# Altium integrated library NSC Converter Analog to Digital.IntLib: 246 symbols (part 2 of 7)
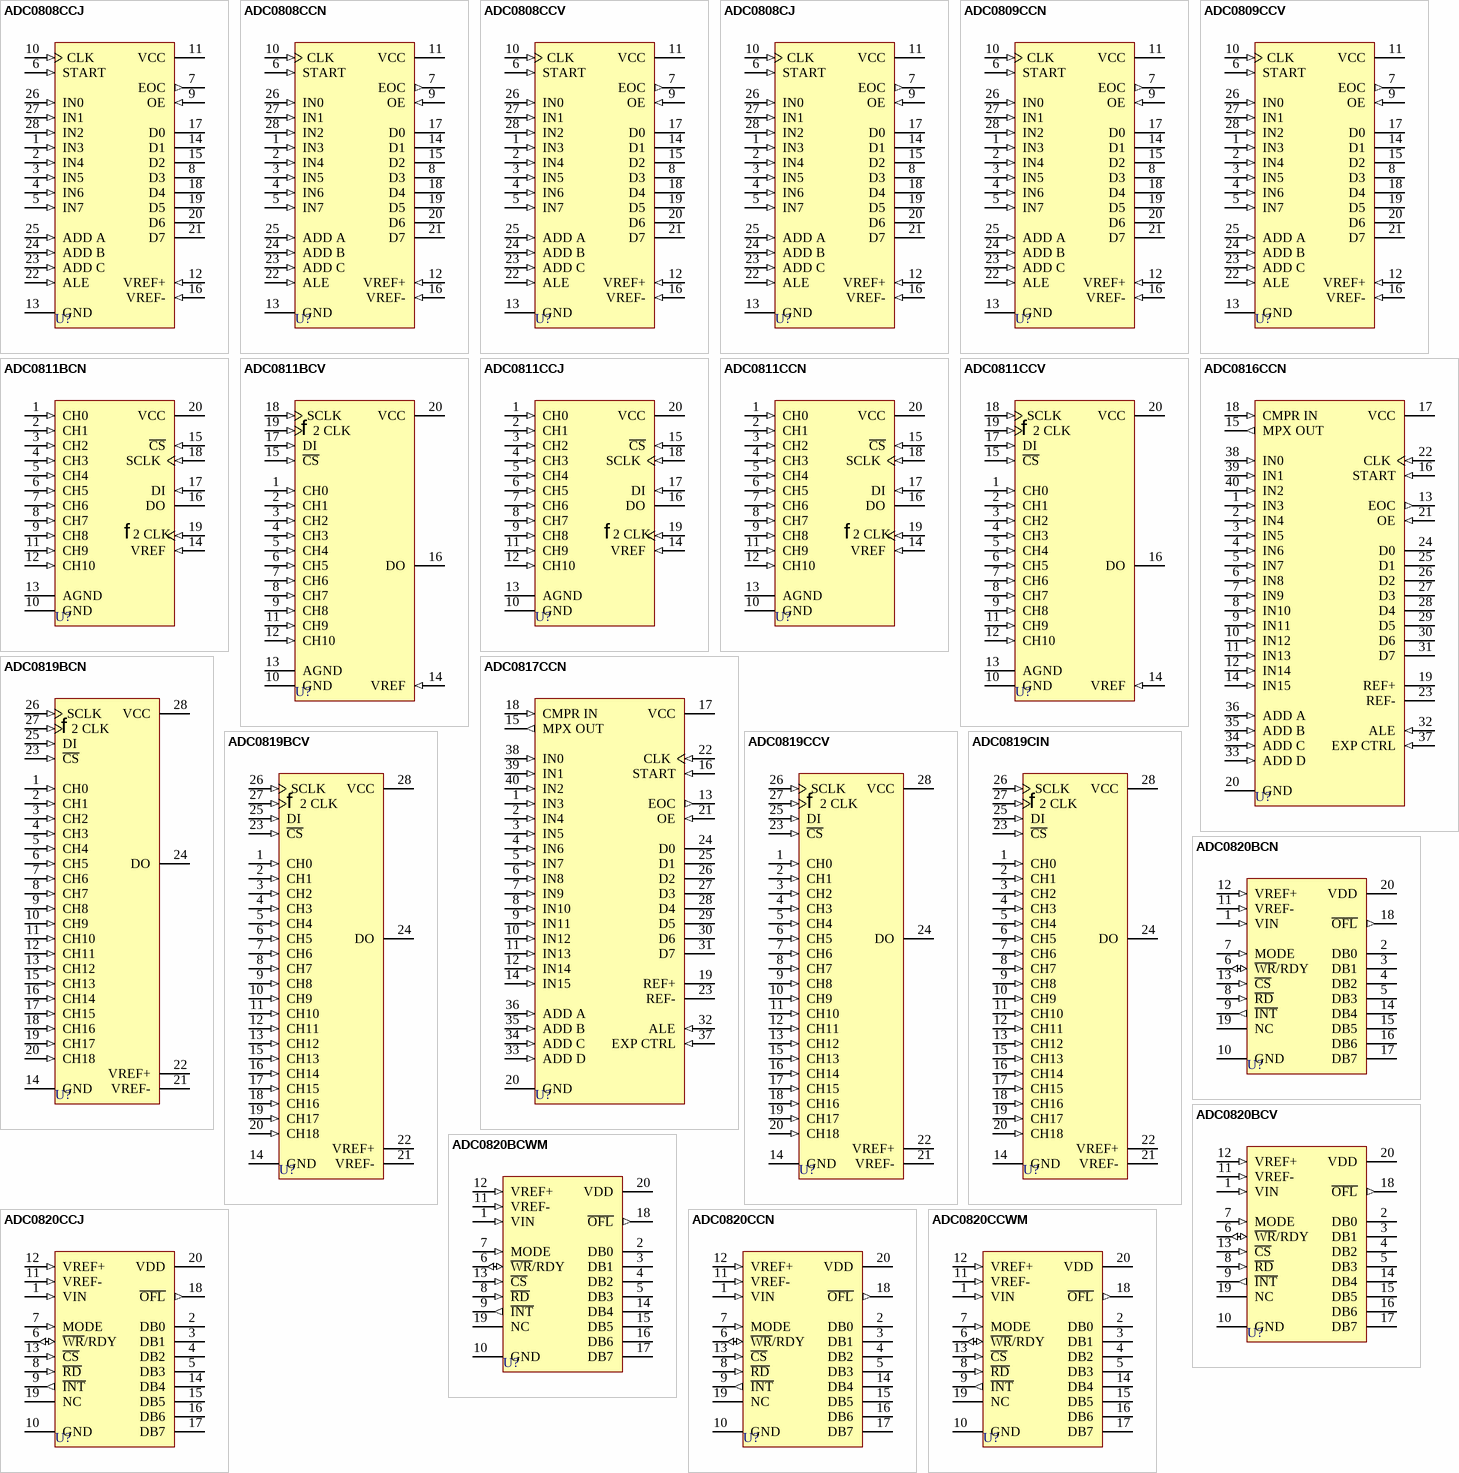
[diagram p10: symbols ADC0808CCJ to ADC0820CCWM]

## ADC0819BCV
designator U?
8-Bit Serial I/O A/D Converter with 19-Channel Multiplexer; ComponentAvailability: Obsolete; Published: 15-Apr-2002; LatestRevisionDate: 13-Apr-2006; LatestRevisionNote: IPC-7351 Footprint Added.; DatasheetVersion: Dec-1994; PackageVersion: 2000; PackageReference: V28A; Publisher: Altium Limited; PackageDescription: 28-Pin Leaded Chip Carrier 1.27 mm Pitch; Code_IPC: PLCC-28; ComponentLink1Description: Manufacturer Link; ComponentLink1URL: http://www.national.com/; ComponentLink2Description: Datasheet; ComponentLink2URL: http://www.national.com/ds.cgi/DC/ADC0819.pdf; ComponentLink3Description: Discontinuation Notice; ComponentLink3URL: http://www.national.com/obs/obsolescence.txt; ComponentLink4Description: URL Link1; ComponentLink4URL: http://www.national.com/pf/DC/ADC0819.html
footprint V28A_N (Leaded Chip Carrier, 28-Leads, Body 11.5x11.5mm, Pitch 1.27mm, IPC Medium Density)
footprint V28A_L (Leaded Chip Carrier, 28-Leads, Body 11.5x11.5mm, Pitch 1.27mm, IPC High Density)
footprint V28A_M (Leaded Chip Carrier, 28-Leads, Body 11.5x11.5mm, Pitch 1.27mm, IPC Low Density)
3D model ADC0819-V28A (28-Pin Leaded Chip Carrier 1.27 mm Pitch)
pins: 1 CH0 (in), 2 CH1 (in), 3 CH2 (in), 4 CH3 (in), 5 CH4 (in), 6 CH5 (in), 7 CH6 (in), 8 CH7 (in), 9 CH8 (in), 10 CH9 (in), 11 CH10 (in), 12 CH11 (in), 13 CH12 (in), 14 GND (power), 15 CH13 (in), 16 CH14 (in), 17 CH15 (in), 18 CH16 (in), 19 CH17 (in), 20 CH18 (in), 21 VREF-, 22 VREF+, 23 ~{CS} (in), 24 DO (hiz), 25 DI (in), 26 SCLK (in), 27 PHI 2 CLK (in), 28 VCC (power)
text: f; 2 CLK

## ADC0819CCV
designator U?
8-Bit Serial I/O A/D Converter with 19-Channel Multiplexer; ComponentAvailability: Obsolete; Published: 15-Apr-2002; LatestRevisionDate: 13-Apr-2006; LatestRevisionNote: IPC-7351 Footprint Added.; DatasheetVersion: Dec-1994; PackageVersion: 2000; PackageReference: V28A; Publisher: Altium Limited; PackageDescription: 28-Pin Leaded Chip Carrier 1.27 mm Pitch; Code_IPC: PLCC-28; ComponentLink1Description: Manufacturer Link; ComponentLink1URL: http://www.national.com/; ComponentLink2Description: Datasheet; ComponentLink2URL: http://www.national.com/ds.cgi/DC/ADC0819.pdf; ComponentLink3Description: Discontinuation Notice; ComponentLink3URL: http://www.national.com/obs/obsolescence.txt; ComponentLink4Description: URL Link1; ComponentLink4URL: http://www.national.com/pf/DC/ADC0819.html
footprint V28A_N (Leaded Chip Carrier, 28-Leads, Body 11.5x11.5mm, Pitch 1.27mm, IPC Medium Density)
footprint V28A_L (Leaded Chip Carrier, 28-Leads, Body 11.5x11.5mm, Pitch 1.27mm, IPC High Density)
footprint V28A_M (Leaded Chip Carrier, 28-Leads, Body 11.5x11.5mm, Pitch 1.27mm, IPC Low Density)
3D model ADC0819-V28A (28-Pin Leaded Chip Carrier 1.27 mm Pitch)
pins: 1 CH0 (in), 2 CH1 (in), 3 CH2 (in), 4 CH3 (in), 5 CH4 (in), 6 CH5 (in), 7 CH6 (in), 8 CH7 (in), 9 CH8 (in), 10 CH9 (in), 11 CH10 (in), 12 CH11 (in), 13 CH12 (in), 14 GND (power), 15 CH13 (in), 16 CH14 (in), 17 CH15 (in), 18 CH16 (in), 19 CH17 (in), 20 CH18 (in), 21 VREF-, 22 VREF+, 23 ~{CS} (in), 24 DO (hiz), 25 DI (in), 26 SCLK (in), 27 PHI 2 CLK (in), 28 VCC (power)
text: f; 2 CLK

## ADC0819CIN
designator U?
8-Bit Serial I/O A/D Converter with 19-Channel Multiplexer; ComponentAvailability: Obsolete; Published: 15-Apr-2002; LatestRevisionDate: 06-Jun-2005; LatestRevisionNote: Stylized 3D Model Added.; DatasheetVersion: Dec-1994; PackageVersion: 2000; PackageReference: N28B; Publisher: Altium Limited; PackageDescription: DIP; 28 Leads; Row Spacing 15.24 mm; Pitch 2.54 mm; ComponentLink1Description: Manufacturer Link; ComponentLink1URL: http://www.national.com/; ComponentLink2Description: Datasheet; ComponentLink2URL: http://www.national.com/ds.cgi/DC/ADC0819.pdf; ComponentLink3Description: Discontinuation Notice; ComponentLink3URL: http://www.national.com/obs/obsolescence.txt; ComponentLink4Description: URL Link1; ComponentLink4URL: http://www.national.com/pf/DC/ADC0819.html
footprint N28B (DIP; 28 Leads; Row Spacing 15.24 mm; Pitch 2.54 mm)
3D model N28B (DIP; 28 Leads; Row Spacing 15.24 mm; Pitch 2.54 mm)
pins: 1 CH0 (in), 2 CH1 (in), 3 CH2 (in), 4 CH3 (in), 5 CH4 (in), 6 CH5 (in), 7 CH6 (in), 8 CH7 (in), 9 CH8 (in), 10 CH9 (in), 11 CH10 (in), 12 CH11 (in), 13 CH12 (in), 14 GND (power), 15 CH13 (in), 16 CH14 (in), 17 CH15 (in), 18 CH16 (in), 19 CH17 (in), 20 CH18 (in), 21 VREF-, 22 VREF+, 23 ~{CS} (in), 24 DO (hiz), 25 DI (in), 26 SCLK (in), 27 PHI 2 CLK (in), 28 VCC (power)
text: f; 2 CLK

## ADC0820BCN
designator U?
8-Bit High Speed µP-Compatible  A/D Conveter with Track/Hold Function; ComponentAvailability: Obsolete; Published: 15-Apr-2002; LatestRevisionDate: 06-Jun-2005; LatestRevisionNote: Stylized 3D Model Added.; DatasheetVersion: Jun-1999; PackageVersion: 2000; PackageReference: N20A; Publisher: Altium Limited; PackageDescription: DIP; 20 Leads; Row Spacing 7.62 mm; Pitch 2.54 mm; Code_JEDEC: MS-001-AD; ComponentLink1Description: Manufacturer Link; ComponentLink1URL: http://www.national.com/; ComponentLink2Description: Datasheet; ComponentLink2URL: http://www.national.com/ds.cgi/DC/ADC0820.pdf; ComponentLink3Description: Discontinuation Notice; ComponentLink3URL: http://www.national.com/obs/obsolescence.txt; ComponentLink4Description: URL Link1; ComponentLink4URL: http://www.national.com/pf/DC/ADC0820.html
footprint N20A (DIP; 20 Leads; Row Spacing 7.62 mm; Pitch 2.54 mm)
3D model N20A (DIP; 20 Leads; Row Spacing 7.62 mm; Pitch 2.54 mm)
pins: 1 VIN (in), 2 DB0 (hiz), 3 DB1 (hiz), 4 DB2 (hiz), 5 DB3 (hiz), 6 ~{WR}/RDY (io), 7 MODE (in), 8 ~{RD} (in), 9 ~{INT} (out), 10 GND (power), 11 VREF- (in), 12 VREF+ (in), 13 ~{CS} (in), 14 DB4 (hiz), 15 DB5 (hiz), 16 DB6 (hiz), 17 DB7 (hiz), 18 ~{OFL} (out), 19 NC, 20 VDD (power)

## ADC0820BCV
designator U?
8-Bit High Speed µP-Compatible  A/D Conveter with Track/Hold Function; ComponentAvailability: Obsolete; Published: 15-Apr-2002; LatestRevisionDate: 13-Apr-2006; LatestRevisionNote: IPC-7351 Footprint Added.; DatasheetVersion: Jun-1999; PackageVersion: 1996; PackageReference: V20A; Publisher: Altium Limited; PackageDescription: 20-Pin Leaded Chip Carrier 1.27 mm Pitch; Code_IPC: PLCC-20; ComponentLink1Description: Manufacturer Link; ComponentLink1URL: http://www.national.com/; ComponentLink2Description: Datasheet; ComponentLink2URL: http://www.national.com/ds.cgi/DC/ADC0820.pdf; ComponentLink3Description: Discontinuation Notice; ComponentLink3URL: http://www.national.com/obs/obsolescence.txt; ComponentLink4Description: URL Link1; ComponentLink4URL: http://www.national.com/pf/DC/ADC0820.html
footprint V20A_N (Leaded Chip Carrier, 20-Leads, Body 9x9mm, Pitch 1.27mm, IPC Medium Density)
footprint V20A_L (Leaded Chip Carrier, 20-Leads, Body 9x9mm, Pitch 1.27mm, IPC High Density)
footprint V20A_M (Leaded Chip Carrier, 20-Leads, Body 9x9mm, Pitch 1.27mm, IPC Low Density)
3D model ADC0820-V20A (20-Pin Leaded Chip Carrier 1.27 mm Pitch)
pins: 1 VIN (in), 2 DB0 (hiz), 3 DB1 (hiz), 4 DB2 (hiz), 5 DB3 (hiz), 6 ~{WR}/RDY (io), 7 MODE (in), 8 ~{RD} (in), 9 ~{INT} (out), 10 GND (power), 11 VREF- (in), 12 VREF+ (in), 13 ~{CS} (in), 14 DB4 (hiz), 15 DB5 (hiz), 16 DB6 (hiz), 17 DB7 (hiz), 18 ~{OFL} (out), 19 NC, 20 VDD (power)

## ADC0820BCWM
designator U?
8-Bit High Speed µP-Compatible  A/D Conveter with Track/Hold Function; Published: 15-Apr-2002; LatestRevisionDate: 13-Apr-2006; LatestRevisionNote: IPC-7351 Footprint Added.; DatasheetVersion: Jun-1999; PackageVersion: 2000; PackageReference: M20B; Publisher: Altium Limited; PackageDescription: 20-Pin Small Outline Integrated Circuit 1.27 mm Pitch; Code_JEDEC: MS-013-AC; Code_IPC: SOIC127P1030-20; ComponentLink1Description: Manufacturer Link; ComponentLink1URL: http://www.national.com/; ComponentLink2Description: Datasheet; ComponentLink2URL: http://www.national.com/ds.cgi/DC/ADC0820.pdf; ComponentLink3Description: URL Link1; ComponentLink3URL: http://www.national.com/pf/DC/ADC0820.html
footprint M20B_N (SOIC, 20-Leads, Body 12.8x7.5mm, Pitch 1.27mm, IPC Medium Density)
footprint M20B_L (SOIC, 20-Leads, Body 12.8x7.5mm, Pitch 1.27mm, IPC High Density)
footprint M20B_M (SOIC, 20-Leads, Body 12.8x7.5mm, Pitch 1.27mm, IPC Low Density)
3D model M20B (20-Pin Small Outline Integrated Circuit 1.27 mm Pitch)
pins: 1 VIN (in), 2 DB0 (hiz), 3 DB1 (hiz), 4 DB2 (hiz), 5 DB3 (hiz), 6 ~{WR}/RDY (io), 7 MODE (in), 8 ~{RD} (in), 9 ~{INT} (out), 10 GND (power), 11 VREF- (in), 12 VREF+ (in), 13 ~{CS} (in), 14 DB4 (hiz), 15 DB5 (hiz), 16 DB6 (hiz), 17 DB7 (hiz), 18 ~{OFL} (out), 19 NC, 20 VDD (power)

## ADC0820CCJ
designator U?
8-Bit High Speed µP-Compatible  A/D Conveter with Track/Hold Function; ComponentAvailability: Obsolete; Published: 15-Apr-2002; LatestRevisionDate: 06-Jun-2005; LatestRevisionNote: Stylized 3D Model Added.; DatasheetVersion: Jun-1999; PackageVersion: 2000; PackageReference: J20A; Publisher: Altium Limited; PackageDescription: DIP; 20 Leads; Row Spacing 7.62 mm; Pitch 2.54 mm; Code_JEDEC: MS-015-AE; ComponentLink1Description: Manufacturer Link; ComponentLink1URL: http://www.national.com/; ComponentLink2Description: Datasheet; ComponentLink2URL: http://www.national.com/ds.cgi/DC/ADC0820.pdf; ComponentLink3Description: Discontinuation Notice; ComponentLink3URL: http://www.national.com/obs/obsolescence.txt; ComponentLink4Description: URL Link1; ComponentLink4URL: http://www.national.com/pf/DC/ADC0820.html
footprint J20A (DIP; 20 Leads; Row Spacing 7.62 mm; Pitch 2.54 mm)
3D model J20A (DIP; 20 Leads; Row Spacing 7.62 mm; Pitch 2.54 mm)
pins: 1 VIN (in), 2 DB0 (hiz), 3 DB1 (hiz), 4 DB2 (hiz), 5 DB3 (hiz), 6 ~{WR}/RDY (io), 7 MODE (in), 8 ~{RD} (in), 9 ~{INT} (out), 10 GND (power), 11 VREF- (in), 12 VREF+ (in), 13 ~{CS} (in), 14 DB4 (hiz), 15 DB5 (hiz), 16 DB6 (hiz), 17 DB7 (hiz), 18 ~{OFL} (out), 19 NC, 20 VDD (power)

## ADC0820CCN
designator U?
8-Bit High Speed µP-Compatible  A/D Conveter with Track/Hold Function; Published: 15-Apr-2002; LatestRevisionDate: 06-Jun-2005; LatestRevisionNote: Stylized 3D Model Added.; DatasheetVersion: Jun-1999; PackageVersion: 2000; PackageReference: N20A; Publisher: Altium Limited; PackageDescription: DIP; 20 Leads; Row Spacing 7.62 mm; Pitch 2.54 mm; Code_JEDEC: MS-001-AD; ComponentLink1Description: Manufacturer Link; ComponentLink1URL: http://www.national.com/; ComponentLink2Description: Datasheet; ComponentLink2URL: http://www.national.com/ds.cgi/DC/ADC0820.pdf; ComponentLink3Description: URL Link1; ComponentLink3URL: http://www.national.com/pf/DC/ADC0820.html
footprint N20A (DIP; 20 Leads; Row Spacing 7.62 mm; Pitch 2.54 mm)
3D model N20A (DIP; 20 Leads; Row Spacing 7.62 mm; Pitch 2.54 mm)
pins: 1 VIN (in), 2 DB0 (hiz), 3 DB1 (hiz), 4 DB2 (hiz), 5 DB3 (hiz), 6 ~{WR}/RDY (io), 7 MODE (in), 8 ~{RD} (in), 9 ~{INT} (out), 10 GND (power), 11 VREF- (in), 12 VREF+ (in), 13 ~{CS} (in), 14 DB4 (hiz), 15 DB5 (hiz), 16 DB6 (hiz), 17 DB7 (hiz), 18 ~{OFL} (out), 19 NC, 20 VDD (power)

## ADC0820CCWM
designator U?
8-Bit High Speed µP-Compatible  A/D Conveter with Track/Hold Function; Published: 15-Apr-2002; LatestRevisionDate: 13-Apr-2006; LatestRevisionNote: IPC-7351 Footprint Added.; DatasheetVersion: Jun-1999; PackageVersion: 2000; PackageReference: M20B; Publisher: Altium Limited; PackageDescription: 20-Pin Small Outline Integrated Circuit 1.27 mm Pitch; Code_JEDEC: MS-013-AC; Code_IPC: SOIC127P1030-20; ComponentLink1Description: Manufacturer Link; ComponentLink1URL: http://www.national.com/; ComponentLink2Description: Datasheet; ComponentLink2URL: http://www.national.com/ds.cgi/DC/ADC0820.pdf; ComponentLink3Description: URL Link1; ComponentLink3URL: http://www.national.com/pf/DC/ADC0820.html
footprint M20B_N (SOIC, 20-Leads, Body 12.8x7.5mm, Pitch 1.27mm, IPC Medium Density)
footprint M20B_L (SOIC, 20-Leads, Body 12.8x7.5mm, Pitch 1.27mm, IPC High Density)
footprint M20B_M (SOIC, 20-Leads, Body 12.8x7.5mm, Pitch 1.27mm, IPC Low Density)
3D model M20B (20-Pin Small Outline Integrated Circuit 1.27 mm Pitch)
pins: 1 VIN (in), 2 DB0 (hiz), 3 DB1 (hiz), 4 DB2 (hiz), 5 DB3 (hiz), 6 ~{WR}/RDY (io), 7 MODE (in), 8 ~{RD} (in), 9 ~{INT} (out), 10 GND (power), 11 VREF- (in), 12 VREF+ (in), 13 ~{CS} (in), 14 DB4 (hiz), 15 DB5 (hiz), 16 DB6 (hiz), 17 DB7 (hiz), 18 ~{OFL} (out), 19 NC, 20 VDD (power)

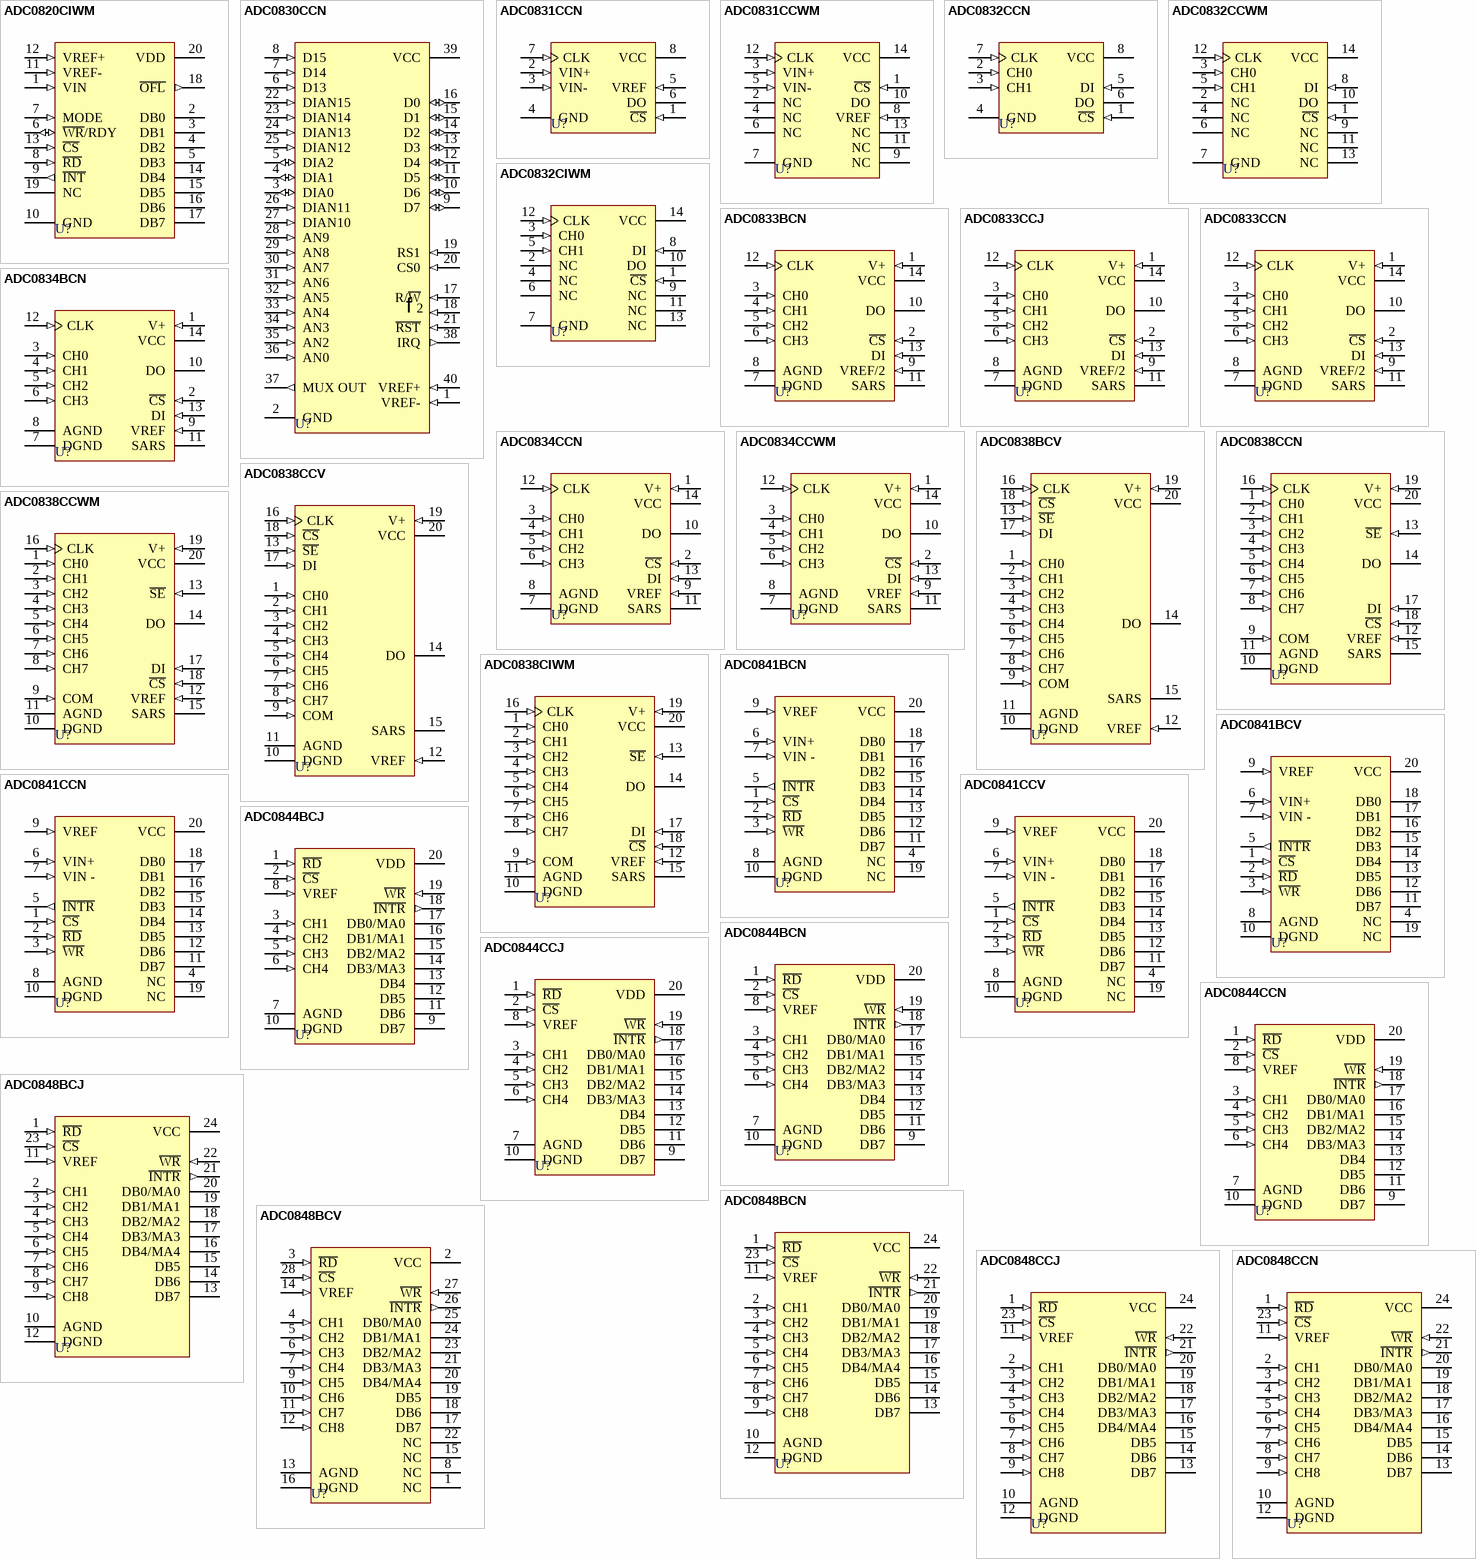
[diagram p2: symbols ADC0820CIWM to ADC0848CCN]

## ADC0820CIWM
designator U?
8-Bit High Speed µP-Compatible  A/D Conveter with Track/Hold Function; ComponentAvailability: Obsolete; Published: 15-Apr-2002; LatestRevisionDate: 13-Apr-2006; LatestRevisionNote: IPC-7351 Footprint Added.; DatasheetVersion: Jun-1999; PackageVersion: 2000; PackageReference: M20B; Publisher: Altium Limited; PackageDescription: 20-Pin Small Outline Integrated Circuit 1.27 mm Pitch; Code_JEDEC: MS-013-AC; Code_IPC: SOIC127P1030-20; ComponentLink1Description: Manufacturer Link; ComponentLink1URL: http://www.national.com/; ComponentLink2Description: Datasheet; ComponentLink2URL: http://www.national.com/ds.cgi/DC/ADC0820.pdf; ComponentLink3Description: Discontinuation Notice; ComponentLink3URL: http://www.national.com/obs/obsolescence.txt; ComponentLink4Description: URL Link1; ComponentLink4URL: http://www.national.com/pf/DC/ADC0820.html
footprint M20B_N (SOIC, 20-Leads, Body 12.8x7.5mm, Pitch 1.27mm, IPC Medium Density)
footprint M20B_L (SOIC, 20-Leads, Body 12.8x7.5mm, Pitch 1.27mm, IPC High Density)
footprint M20B_M (SOIC, 20-Leads, Body 12.8x7.5mm, Pitch 1.27mm, IPC Low Density)
3D model M20B (20-Pin Small Outline Integrated Circuit 1.27 mm Pitch)
pins: 1 VIN (in), 2 DB0 (hiz), 3 DB1 (hiz), 4 DB2 (hiz), 5 DB3 (hiz), 6 ~{WR}/RDY (io), 7 MODE (in), 8 ~{RD} (in), 9 ~{INT} (out), 10 GND (power), 11 VREF- (in), 12 VREF+ (in), 13 ~{CS} (in), 14 DB4 (hiz), 15 DB5 (hiz), 16 DB6 (hiz), 17 DB7 (hiz), 18 ~{OFL} (out), 19 NC, 20 VDD (power)

## ADC0830CCN
designator U?
µP-Compatible 8-Bit A/D with Channel MUX/Digital Input; Published: 15-Apr-2002; LatestRevisionDate: 06-Jun-2005; LatestRevisionNote: Stylized 3D Model Added.; DatasheetVersion: Nov-1989; PackageVersion: 1995; PackageReference: N40A; Publisher: Altium Limited; PackageDescription: DIP; 40 Leads; Row Spacing 15.24 mm; Pitch 2.54 mm; ComponentLink1Description: Manufacturer Link; ComponentLink1URL: http://www.national.com/
footprint N40A (DIP; 40 Leads; Row Spacing 15.24 mm; Pitch 2.54 mm)
3D model N40A (DIP; 40 Leads; Row Spacing 15.24 mm; Pitch 2.54 mm)
pins: 1 VREF- (in), 2 GND (power), 3 DIA0 (io), 4 DIA1 (io), 5 DIA2 (io), 6 D13 (in), 7 D14 (in), 8 D15 (in), 9 D7 (io), 10 D6 (io), 11 D5 (io), 12 D4 (io), 13 D3 (io), 14 D2 (io), 15 D1 (io), 16 D0 (io), 17 R/~{W} (in), 18 PHI 2 (in), 19 RS1 (in), 20 CS0 (in), 21 ~{RST} (in), 22 DIAN15 (in), 23 DIAN14 (in), 24 DIAN13 (in), 25 DIAN12 (in), 26 DIAN11 (in), 27 DIAN10 (in), 28 AN9 (in), 29 AN8 (in), 30 AN7 (in), 31 AN6 (in), 32 AN5 (in), 33 AN4 (in), 34 AN3 (in), 35 AN2 (in), 36 AN0 (in), 37 MUX OUT (out), 38 IRQ (out), 39 VCC (power), 40 VREF+ (in)
text: f

## ADC0831CCN
designator U?
8-Bit Serial I/O A/D Converter with Multiplexer Option; Published: 15-Apr-2002; LatestRevisionDate: 06-Jun-2005; LatestRevisionNote: Stylized 3D Model Added.; DatasheetVersion: Aug-1999; PackageVersion: Sep-1997; PackageReference: N08E; Publisher: Altium Limited; PackageDescription: DIP; 8 Leads; Row Spacing 7.62 mm; Pitch 2.54 mm; ComponentLink1Description: Manufacturer Link; ComponentLink1URL: http://www.national.com/; ComponentLink2Description: Datasheet; ComponentLink2URL: http://www.national.com/ds.cgi/DC/ADC0831.pdf; ComponentLink3Description: URL Link1; ComponentLink3URL: http://www.national.com/pf/DC/ADC0831.html
footprint N08E (DIP; 8 Leads; Row Spacing 7.62 mm; Pitch 2.54 mm)
3D model N08E (DIP; 8 Leads; Row Spacing 7.62 mm; Pitch 2.54 mm)
pins: 1 ~{CS} (in), 2 VIN+ (in), 3 VIN- (in), 4 GND (power), 5 VREF (in), 6 DO (hiz), 7 CLK (in), 8 VCC (power)

## ADC0831CCWM
designator U?
8-Bit Serial I/O A/D Converter with Multiplexer Option; Published: 15-Apr-2002; LatestRevisionDate: 13-Apr-2006; LatestRevisionNote: IPC-7351 Footprint Added.; DatasheetVersion: Aug-1999; PackageVersion: 2000; PackageReference: M14B; Publisher: Altium Limited; PackageDescription: 14-Pin Small Outline Integrated Circuit 1.27 mm Pitch; Code_JEDEC: MS-013-AF; Code_IPC: SOIC127P1030-14; ComponentLink1Description: Manufacturer Link; ComponentLink1URL: http://www.national.com/; ComponentLink2Description: Datasheet; ComponentLink2URL: http://www.national.com/ds.cgi/DC/ADC0831.pdf; ComponentLink3Description: URL Link1; ComponentLink3URL: http://www.national.com/pf/DC/ADC0831.html
footprint M14B_N (SOIC, 14-Leads, Body 9x7.5mm, Pitch 1.27mm, IPC Medium Density)
footprint M14B_L (SOIC, 14-Leads, Body 9x7.5mm, Pitch 1.27mm, IPC High Density)
footprint M14B_M (SOIC, 14-Leads, Body 9x7.5mm, Pitch 1.27mm, IPC Low Density)
3D model M14B (14-Pin Small Outline Integrated Circuit 1.27 mm Pitch)
pins: 1 ~{CS} (in), 2 NC, 3 VIN+ (in), 4 NC, 5 VIN- (in), 6 NC, 7 GND (power), 8 VREF (in), 9 NC, 10 DO (hiz), 11 NC, 12 CLK (in), 13 NC, 14 VCC (power)

## ADC0832CCN
designator U?
8-Bit Serial I/O A/D Converter with Multiplexer Option; Published: 15-Apr-2002; LatestRevisionDate: 06-Jun-2005; LatestRevisionNote: Stylized 3D Model Added.; DatasheetVersion: Aug-1999; PackageVersion: Sep-1997; PackageReference: N08E; Publisher: Altium Limited; PackageDescription: DIP; 8 Leads; Row Spacing 7.62 mm; Pitch 2.54 mm; ComponentLink1Description: Manufacturer Link; ComponentLink1URL: http://www.national.com/; ComponentLink2Description: Datasheet; ComponentLink2URL: http://www.national.com/ds.cgi/DC/ADC0831.pdf; ComponentLink3Description: URL Link1; ComponentLink3URL: http://www.national.com/pf/DC/ADC0832.html
footprint N08E (DIP; 8 Leads; Row Spacing 7.62 mm; Pitch 2.54 mm)
3D model N08E (DIP; 8 Leads; Row Spacing 7.62 mm; Pitch 2.54 mm)
pins: 1 ~{CS} (in), 2 CH0 (in), 3 CH1 (in), 4 GND (power), 5 DI (in), 6 DO (hiz), 7 CLK (in), 8 VCC (power)

## ADC0832CCWM
designator U?
8-Bit Serial I/O A/D Converter with Multiplexer Option; Published: 15-Apr-2002; LatestRevisionDate: 13-Apr-2006; LatestRevisionNote: IPC-7351 Footprint Added.; DatasheetVersion: Aug-1999; PackageVersion: 2000; PackageReference: M14B; Publisher: Altium Limited; PackageDescription: 14-Pin Small Outline Integrated Circuit 1.27 mm Pitch; Code_JEDEC: MS-013-AF; Code_IPC: SOIC127P1030-14; ComponentLink1Description: Manufacturer Link; ComponentLink1URL: http://www.national.com/; ComponentLink2Description: Datasheet; ComponentLink2URL: http://www.national.com/ds.cgi/DC/ADC0831.pdf; ComponentLink3Description: URL Link1; ComponentLink3URL: http://www.national.com/pf/DC/ADC0832.html
footprint M14B_N (SOIC, 14-Leads, Body 9x7.5mm, Pitch 1.27mm, IPC Medium Density)
footprint M14B_L (SOIC, 14-Leads, Body 9x7.5mm, Pitch 1.27mm, IPC High Density)
footprint M14B_M (SOIC, 14-Leads, Body 9x7.5mm, Pitch 1.27mm, IPC Low Density)
3D model M14B (14-Pin Small Outline Integrated Circuit 1.27 mm Pitch)
pins: 1 ~{CS} (in), 2 NC, 3 CH0 (in), 4 NC, 5 CH1 (in), 6 NC, 7 GND (power), 8 DI (in), 9 NC, 10 DO (hiz), 11 NC, 12 CLK (in), 13 NC, 14 VCC (power)

## ADC0832CIWM
designator U?
8-Bit Serial I/O A/D Converter with Multiplexer Option; Published: 15-Apr-2002; LatestRevisionDate: 13-Apr-2006; LatestRevisionNote: IPC-7351 Footprint Added.; DatasheetVersion: Aug-1999; PackageVersion: 2000; PackageReference: M14B; Publisher: Altium Limited; PackageDescription: 14-Pin Small Outline Integrated Circuit 1.27 mm Pitch; Code_JEDEC: MS-013-AF; Code_IPC: SOIC127P1030-14; ComponentLink1Description: Manufacturer Link; ComponentLink1URL: http://www.national.com/; ComponentLink2Description: Datasheet; ComponentLink2URL: http://www.national.com/ds.cgi/DC/ADC0831.pdf; ComponentLink3Description: URL Link1; ComponentLink3URL: http://www.national.com/pf/DC/ADC0832.html
footprint M14B_N (SOIC, 14-Leads, Body 9x7.5mm, Pitch 1.27mm, IPC Medium Density)
footprint M14B_L (SOIC, 14-Leads, Body 9x7.5mm, Pitch 1.27mm, IPC High Density)
footprint M14B_M (SOIC, 14-Leads, Body 9x7.5mm, Pitch 1.27mm, IPC Low Density)
3D model M14B (14-Pin Small Outline Integrated Circuit 1.27 mm Pitch)
pins: 1 ~{CS} (in), 2 NC, 3 CH0 (in), 4 NC, 5 CH1 (in), 6 NC, 7 GND (power), 8 DI (in), 9 NC, 10 DO (hiz), 11 NC, 12 CLK (in), 13 NC, 14 VCC (power)

## ADC0833BCN
designator U?
8-Bit Serial I/O A/D Converter with 4-Channel Multiplexer; ComponentAvailability: Obsolete; Published: 15-Apr-2002; LatestRevisionDate: 06-Jun-2005; LatestRevisionNote: Stylized 3D Model Added.; DatasheetVersion: Dec-1994; PackageVersion: 2000; PackageReference: N14A; Publisher: Altium Limited; PackageDescription: DIP; 14 Leads; Row Spacing 7.62 mm; Pitch 2.54 mm; ComponentLink1Description: Manufacturer Link; ComponentLink1URL: http://www.national.com/; ComponentLink2Description: Datasheet; ComponentLink2URL: http://www.national.com/ds.cgi/DC/ADC0833.pdf; ComponentLink3Description: Discontinuation Notice; ComponentLink3URL: http://www.national.com/obs/obsolescence.txt; ComponentLink4Description: URL Link1; ComponentLink4URL: http://www.national.com/pf/DC/ADC0833.html
footprint N14A (DIP; 14 Leads; Row Spacing 7.62 mm; Pitch 2.54 mm)
3D model N14A (DIP; 14 Leads; Row Spacing 7.62 mm; Pitch 2.54 mm)
pins: 1 V+ (in), 2 ~{CS} (in), 3 CH0 (in), 4 CH1 (in), 5 CH2 (in), 6 CH3 (in), 7 DGND (power), 8 AGND (power), 9 VREF/2 (in), 10 DO (hiz), 11 SARS (hiz), 12 CLK (in), 13 DI (in), 14 VCC (power)

## ADC0833CCJ
designator U?
8-Bit Serial I/O A/D Converter with 4-Channel Multiplexer; ComponentAvailability: Obsolete; Published: 15-Apr-2002; LatestRevisionDate: 06-Jun-2005; LatestRevisionNote: Stylized 3D Model Added.; DatasheetVersion: Dec-1994; PackageVersion: 2000; PackageReference: J14A; Publisher: Altium Limited; PackageDescription: DIP; 14 Leads; Row Spacing 7.62 mm; Pitch 2.54 mm; ComponentLink1Description: Manufacturer Link; ComponentLink1URL: http://www.national.com/; ComponentLink2Description: Datasheet; ComponentLink2URL: http://www.national.com/ds.cgi/DC/ADC0833.pdf; ComponentLink3Description: Discontinuation Notice; ComponentLink3URL: http://www.national.com/obs/obsolescence.txt; ComponentLink4Description: URL Link1; ComponentLink4URL: http://www.national.com/pf/DC/ADC0833.html
footprint J14A (DIP; 14 Leads; Row Spacing 7.62 mm; Pitch 2.54 mm)
3D model J14A (DIP; 14 Leads; Row Spacing 7.62 mm; Pitch 2.54 mm)
pins: 1 V+ (in), 2 ~{CS} (in), 3 CH0 (in), 4 CH1 (in), 5 CH2 (in), 6 CH3 (in), 7 DGND (power), 8 AGND (power), 9 VREF/2 (in), 10 DO (hiz), 11 SARS (hiz), 12 CLK (in), 13 DI (in), 14 VCC (power)

## ADC0833CCN
designator U?
8-Bit Serial I/O A/D Converter with 4-Channel Multiplexer; ComponentAvailability: Obsolete; Published: 15-Apr-2002; LatestRevisionDate: 06-Jun-2005; LatestRevisionNote: Stylized 3D Model Added.; DatasheetVersion: Dec-1994; PackageVersion: 2000; PackageReference: N14A; Publisher: Altium Limited; PackageDescription: DIP; 14 Leads; Row Spacing 7.62 mm; Pitch 2.54 mm; ComponentLink1Description: Manufacturer Link; ComponentLink1URL: http://www.national.com/; ComponentLink2Description: Datasheet; ComponentLink2URL: http://www.national.com/ds.cgi/DC/ADC0833.pdf; ComponentLink3Description: Discontinuation Notice; ComponentLink3URL: http://www.national.com/obs/obsolescence.txt; ComponentLink4Description: URL Link1; ComponentLink4URL: http://www.national.com/pf/DC/ADC0833.html
footprint N14A (DIP; 14 Leads; Row Spacing 7.62 mm; Pitch 2.54 mm)
3D model N14A (DIP; 14 Leads; Row Spacing 7.62 mm; Pitch 2.54 mm)
pins: 1 V+ (in), 2 ~{CS} (in), 3 CH0 (in), 4 CH1 (in), 5 CH2 (in), 6 CH3 (in), 7 DGND (power), 8 AGND (power), 9 VREF/2 (in), 10 DO (hiz), 11 SARS (hiz), 12 CLK (in), 13 DI (in), 14 VCC (power)

## ADC0834BCN
designator U?
8-Bit Serial I/O A/D Converter with Multiplexer Option; Published: 15-Apr-2002; LatestRevisionDate: 06-Jun-2005; LatestRevisionNote: Stylized 3D Model Added.; DatasheetVersion: Aug-1999; PackageVersion: 2000; PackageReference: N14A; Publisher: Altium Limited; PackageDescription: DIP; 14 Leads; Row Spacing 7.62 mm; Pitch 2.54 mm; ComponentLink1Description: Manufacturer Link; ComponentLink1URL: http://www.national.com/; ComponentLink2Description: Datasheet; ComponentLink2URL: http://www.national.com/ds.cgi/DC/ADC0831.pdf; ComponentLink3Description: URL Link1; ComponentLink3URL: http://www.national.com/pf/DC/ADC0834.html
footprint N14A (DIP; 14 Leads; Row Spacing 7.62 mm; Pitch 2.54 mm)
3D model N14A (DIP; 14 Leads; Row Spacing 7.62 mm; Pitch 2.54 mm)
pins: 1 V+ (in), 2 ~{CS} (in), 3 CH0 (in), 4 CH1 (in), 5 CH2 (in), 6 CH3 (in), 7 DGND (power), 8 AGND (power), 9 VREF (in), 10 DO (hiz), 11 SARS (hiz), 12 CLK (in), 13 DI (in), 14 VCC (power)

## ADC0834CCN
designator U?
8-Bit Serial I/O A/D Converter with Multiplexer Option; Published: 15-Apr-2002; LatestRevisionDate: 06-Jun-2005; LatestRevisionNote: Stylized 3D Model Added.; DatasheetVersion: Aug-1999; PackageVersion: 2000; PackageReference: N14A; Publisher: Altium Limited; PackageDescription: DIP; 14 Leads; Row Spacing 7.62 mm; Pitch 2.54 mm; ComponentLink1Description: Manufacturer Link; ComponentLink1URL: http://www.national.com/; ComponentLink2Description: Datasheet; ComponentLink2URL: http://www.national.com/ds.cgi/DC/ADC0831.pdf; ComponentLink3Description: URL Link1; ComponentLink3URL: http://www.national.com/pf/DC/ADC0834.html
footprint N14A (DIP; 14 Leads; Row Spacing 7.62 mm; Pitch 2.54 mm)
3D model N14A (DIP; 14 Leads; Row Spacing 7.62 mm; Pitch 2.54 mm)
pins: 1 V+ (in), 2 ~{CS} (in), 3 CH0 (in), 4 CH1 (in), 5 CH2 (in), 6 CH3 (in), 7 DGND (power), 8 AGND (power), 9 VREF (in), 10 DO (hiz), 11 SARS (hiz), 12 CLK (in), 13 DI (in), 14 VCC (power)

## ADC0834CCWM
designator U?
8-Bit Serial I/O A/D Converter with Multiplexer Option; Published: 15-Apr-2002; LatestRevisionDate: 13-Apr-2006; LatestRevisionNote: IPC-7351 Footprint Added.; DatasheetVersion: Aug-1999; PackageVersion: 2000; PackageReference: M14B; Publisher: Altium Limited; PackageDescription: 14-Pin Small Outline Integrated Circuit 1.27 mm Pitch; Code_JEDEC: MS-013-AF; Code_IPC: SOIC127P1030-14; ComponentLink1Description: Manufacturer Link; ComponentLink1URL: http://www.national.com/; ComponentLink2Description: Datasheet; ComponentLink2URL: http://www.national.com/ds.cgi/DC/ADC0831.pdf; ComponentLink3Description: URL Link1; ComponentLink3URL: http://www.national.com/pf/DC/ADC0834.html
footprint M14B_N (SOIC, 14-Leads, Body 9x7.5mm, Pitch 1.27mm, IPC Medium Density)
footprint M14B_L (SOIC, 14-Leads, Body 9x7.5mm, Pitch 1.27mm, IPC High Density)
footprint M14B_M (SOIC, 14-Leads, Body 9x7.5mm, Pitch 1.27mm, IPC Low Density)
3D model M14B (14-Pin Small Outline Integrated Circuit 1.27 mm Pitch)
pins: 1 V+ (in), 2 ~{CS} (in), 3 CH0 (in), 4 CH1 (in), 5 CH2 (in), 6 CH3 (in), 7 DGND (power), 8 AGND (power), 9 VREF (in), 10 DO (hiz), 11 SARS (hiz), 12 CLK (in), 13 DI (in), 14 VCC (power)

## ADC0838BCV
designator U?
8-Bit Serial I/O A/D Converter with Multiplexer Option; ComponentAvailability: Obsolete; Published: 15-Apr-2002; LatestRevisionDate: 13-Apr-2006; LatestRevisionNote: IPC-7351 Footprint Added.; DatasheetVersion: Aug-1999; PackageVersion: 1996; PackageReference: V20A; Publisher: Altium Limited; PackageDescription: 20-Pin Leaded Chip Carrier 1.27 mm Pitch; Code_IPC: PLCC-20; ComponentLink1Description: Manufacturer Link; ComponentLink1URL: http://www.national.com/; ComponentLink2Description: Datasheet; ComponentLink2URL: http://www.national.com/ds.cgi/DC/ADC0831.pdf; ComponentLink3Description: Discontinuation Notice; ComponentLink3URL: http://www.national.com/obs/obsolescence.txt; ComponentLink4Description: URL Link1; ComponentLink4URL: http://www.national.com/pf/DC/ADC0838.html
footprint V20A_N (Leaded Chip Carrier, 20-Leads, Body 9x9mm, Pitch 1.27mm, IPC Medium Density)
footprint V20A_L (Leaded Chip Carrier, 20-Leads, Body 9x9mm, Pitch 1.27mm, IPC High Density)
footprint V20A_M (Leaded Chip Carrier, 20-Leads, Body 9x9mm, Pitch 1.27mm, IPC Low Density)
3D model ADC0838-V20A (20-Pin Leaded Chip Carrier 1.27 mm Pitch)
pins: 1 CH0 (in), 2 CH1 (in), 3 CH2 (in), 4 CH3 (in), 5 CH4 (in), 6 CH5 (in), 7 CH6 (in), 8 CH7 (in), 9 COM (in), 10 DGND (power), 11 AGND (power), 12 VREF (in), 13 ~{SE} (in), 14 DO (hiz), 15 SARS (hiz), 16 CLK (in), 17 DI (in), 18 ~{CS} (in), 19 V+ (in), 20 VCC (power)

## ADC0838CCN
designator U?
8-Bit Serial I/O A/D Converter with Multiplexer Option; Published: 15-Apr-2002; LatestRevisionDate: 06-Jun-2005; LatestRevisionNote: Stylized 3D Model Added.; DatasheetVersion: Aug-1999; PackageVersion: 2000; PackageReference: N20A; Publisher: Altium Limited; PackageDescription: DIP; 20 Leads; Row Spacing 7.62 mm; Pitch 2.54 mm; Code_JEDEC: MS-001-AD; ComponentLink1Description: Manufacturer Link; ComponentLink1URL: http://www.national.com/; ComponentLink2Description: Datasheet; ComponentLink2URL: http://www.national.com/ds.cgi/DC/ADC0831.pdf; ComponentLink3Description: URL Link1; ComponentLink3URL: http://www.national.com/pf/DC/ADC0838.html
footprint N20A (DIP; 20 Leads; Row Spacing 7.62 mm; Pitch 2.54 mm)
3D model N20A (DIP; 20 Leads; Row Spacing 7.62 mm; Pitch 2.54 mm)
pins: 1 CH0 (in), 2 CH1 (in), 3 CH2 (in), 4 CH3 (in), 5 CH4 (in), 6 CH5 (in), 7 CH6 (in), 8 CH7 (in), 9 COM (in), 10 DGND (power), 11 AGND (power), 12 VREF (in), 13 ~{SE} (in), 14 DO (hiz), 15 SARS (hiz), 16 CLK (in), 17 DI (in), 18 ~{CS} (in), 19 V+ (in), 20 VCC (power)

## ADC0838CCV
designator U?
8-Bit Serial I/O A/D Converter with Multiplexer Option; ComponentAvailability: Obsolete; Published: 15-Apr-2002; LatestRevisionDate: 13-Apr-2006; LatestRevisionNote: IPC-7351 Footprint Added.; DatasheetVersion: Aug-1999; PackageVersion: 1996; PackageReference: V20A; Publisher: Altium Limited; PackageDescription: 20-Pin Leaded Chip Carrier 1.27 mm Pitch; Code_IPC: PLCC-20; ComponentLink1Description: Manufacturer Link; ComponentLink1URL: http://www.national.com/; ComponentLink2Description: Datasheet; ComponentLink2URL: http://www.national.com/ds.cgi/DC/ADC0831.pdf; ComponentLink3Description: Discontinuation Notice; ComponentLink3URL: http://www.national.com/obs/obsolescence.txt; ComponentLink4Description: URL Link1; ComponentLink4URL: http://www.national.com/pf/DC/ADC0838.html
footprint V20A_N (Leaded Chip Carrier, 20-Leads, Body 9x9mm, Pitch 1.27mm, IPC Medium Density)
footprint V20A_L (Leaded Chip Carrier, 20-Leads, Body 9x9mm, Pitch 1.27mm, IPC High Density)
footprint V20A_M (Leaded Chip Carrier, 20-Leads, Body 9x9mm, Pitch 1.27mm, IPC Low Density)
3D model ADC0838-V20A (20-Pin Leaded Chip Carrier 1.27 mm Pitch)
pins: 1 CH0 (in), 2 CH1 (in), 3 CH2 (in), 4 CH3 (in), 5 CH4 (in), 6 CH5 (in), 7 CH6 (in), 8 CH7 (in), 9 COM (in), 10 DGND (power), 11 AGND (power), 12 VREF (in), 13 ~{SE} (in), 14 DO (hiz), 15 SARS (hiz), 16 CLK (in), 17 DI (in), 18 ~{CS} (in), 19 V+ (in), 20 VCC (power)

## ADC0838CCWM
designator U?
8-Bit Serial I/O A/D Converter with Multiplexer Option; Published: 15-Apr-2002; LatestRevisionDate: 13-Apr-2006; LatestRevisionNote: IPC-7351 Footprint Added.; DatasheetVersion: Aug-1999; PackageVersion: 2000; PackageReference: M20B; Publisher: Altium Limited; PackageDescription: 20-Pin Small Outline Integrated Circuit 1.27 mm Pitch; Code_JEDEC: MS-013-AC; Code_IPC: SOIC127P1030-20; ComponentLink1Description: Manufacturer Link; ComponentLink1URL: http://www.national.com/; ComponentLink2Description: Datasheet; ComponentLink2URL: http://www.national.com/ds.cgi/DC/ADC0831.pdf; ComponentLink3Description: URL Link1; ComponentLink3URL: http://www.national.com/pf/DC/ADC0838.html
footprint M20B_N (SOIC, 20-Leads, Body 12.8x7.5mm, Pitch 1.27mm, IPC Medium Density)
footprint M20B_L (SOIC, 20-Leads, Body 12.8x7.5mm, Pitch 1.27mm, IPC High Density)
footprint M20B_M (SOIC, 20-Leads, Body 12.8x7.5mm, Pitch 1.27mm, IPC Low Density)
3D model M20B (20-Pin Small Outline Integrated Circuit 1.27 mm Pitch)
pins: 1 CH0 (in), 2 CH1 (in), 3 CH2 (in), 4 CH3 (in), 5 CH4 (in), 6 CH5 (in), 7 CH6 (in), 8 CH7 (in), 9 COM (in), 10 DGND (power), 11 AGND (power), 12 VREF (in), 13 ~{SE} (in), 14 DO (hiz), 15 SARS (hiz), 16 CLK (in), 17 DI (in), 18 ~{CS} (in), 19 V+ (in), 20 VCC (power)

## ADC0838CIWM
designator U?
8-Bit Serial I/O A/D Converter with Multiplexer Option; Published: 15-Apr-2002; LatestRevisionDate: 13-Apr-2006; LatestRevisionNote: IPC-7351 Footprint Added.; DatasheetVersion: Aug-1999; PackageVersion: 2000; PackageReference: M20B; Publisher: Altium Limited; PackageDescription: 20-Pin Small Outline Integrated Circuit 1.27 mm Pitch; Code_JEDEC: MS-013-AC; Code_IPC: SOIC127P1030-20; ComponentLink1Description: Manufacturer Link; ComponentLink1URL: http://www.national.com/; ComponentLink2Description: Datasheet; ComponentLink2URL: http://www.national.com/ds.cgi/DC/ADC0831.pdf; ComponentLink3Description: URL Link1; ComponentLink3URL: http://www.national.com/pf/DC/ADC0838.html
footprint M20B_N (SOIC, 20-Leads, Body 12.8x7.5mm, Pitch 1.27mm, IPC Medium Density)
footprint M20B_L (SOIC, 20-Leads, Body 12.8x7.5mm, Pitch 1.27mm, IPC High Density)
footprint M20B_M (SOIC, 20-Leads, Body 12.8x7.5mm, Pitch 1.27mm, IPC Low Density)
3D model M20B (20-Pin Small Outline Integrated Circuit 1.27 mm Pitch)
pins: 1 CH0 (in), 2 CH1 (in), 3 CH2 (in), 4 CH3 (in), 5 CH4 (in), 6 CH5 (in), 7 CH6 (in), 8 CH7 (in), 9 COM (in), 10 DGND (power), 11 AGND (power), 12 VREF (in), 13 ~{SE} (in), 14 DO (hiz), 15 SARS (hiz), 16 CLK (in), 17 DI (in), 18 ~{CS} (in), 19 V+ (in), 20 VCC (power)

## ADC0841BCN
designator U?
8-Bit µP-Compatible A/D Converter; ComponentAvailability: Obsolete; Published: 15-Apr-2002; LatestRevisionDate: 06-Jun-2005; LatestRevisionNote: Stylized 3D Model Added.; DatasheetVersion: May-1998; PackageVersion: 2000; PackageReference: N20A; Publisher: Altium Limited; PackageDescription: DIP; 20 Leads; Row Spacing 7.62 mm; Pitch 2.54 mm; Code_JEDEC: MS-001-AD; ComponentLink1Description: Manufacturer Link; ComponentLink1URL: http://www.national.com/; ComponentLink2Description: Datasheet; ComponentLink2URL: http://www.national.com/ds.cgi/DC/ADC0841.pdf; ComponentLink3Description: Discontinuation Notice; ComponentLink3URL: http://www.national.com/obs/obsolescence.txt; ComponentLink4Description: URL Link1; ComponentLink4URL: http://www.national.com/pf/DC/ADC0841.html
footprint N20A (DIP; 20 Leads; Row Spacing 7.62 mm; Pitch 2.54 mm)
3D model N20A (DIP; 20 Leads; Row Spacing 7.62 mm; Pitch 2.54 mm)
pins: 1 ~{CS} (in), 2 ~{RD} (in), 3 ~{WR} (in), 4 NC, 5 ~{INTR} (out), 6 VIN+ (in), 7 VIN - (in), 8 AGND (power), 9 VREF (in), 10 DGND (power), 11 DB7 (hiz), 12 DB6 (hiz), 13 DB5 (hiz), 14 DB4 (hiz), 15 DB3 (hiz), 16 DB2 (hiz), 17 DB1 (hiz), 18 DB0 (hiz), 19 NC, 20 VCC (power)

## ADC0841BCV
designator U?
8-Bit µP-Compatible A/D Converter; ComponentAvailability: Obsolete; Published: 15-Apr-2002; LatestRevisionDate: 13-Apr-2006; LatestRevisionNote: IPC-7351 Footprint Added.; DatasheetVersion: May-1998; PackageVersion: 1996; PackageReference: V20A; Publisher: Altium Limited; PackageDescription: 20-Pin Leaded Chip Carrier 1.27 mm Pitch; Code_IPC: PLCC-20; ComponentLink1Description: Manufacturer Link; ComponentLink1URL: http://www.national.com/; ComponentLink2Description: Datasheet; ComponentLink2URL: http://www.national.com/ds.cgi/DC/ADC0841.pdf; ComponentLink3Description: Discontinuation Notice; ComponentLink3URL: http://www.national.com/obs/obsolescence.txt; ComponentLink4Description: URL Link1; ComponentLink4URL: http://www.national.com/pf/DC/ADC0841.html
footprint V20A_N (Leaded Chip Carrier, 20-Leads, Body 9x9mm, Pitch 1.27mm, IPC Medium Density)
footprint V20A_L (Leaded Chip Carrier, 20-Leads, Body 9x9mm, Pitch 1.27mm, IPC High Density)
footprint V20A_M (Leaded Chip Carrier, 20-Leads, Body 9x9mm, Pitch 1.27mm, IPC Low Density)
3D model ADC0841-V20A (20-Pin Leaded Chip Carrier 1.27 mm Pitch)
pins: 1 ~{CS} (in), 2 ~{RD} (in), 3 ~{WR} (in), 4 NC, 5 ~{INTR} (out), 6 VIN+ (in), 7 VIN - (in), 8 AGND (power), 9 VREF (in), 10 DGND (power), 11 DB7 (hiz), 12 DB6 (hiz), 13 DB5 (hiz), 14 DB4 (hiz), 15 DB3 (hiz), 16 DB2 (hiz), 17 DB1 (hiz), 18 DB0 (hiz), 19 NC, 20 VCC (power)

## ADC0841CCN
designator U?
8-Bit µP-Compatible A/D Converter; ComponentAvailability: Obsolete; Published: 15-Apr-2002; LatestRevisionDate: 06-Jun-2005; LatestRevisionNote: Stylized 3D Model Added.; DatasheetVersion: May-1998; PackageVersion: 2000; PackageReference: N20A; Publisher: Altium Limited; PackageDescription: DIP; 20 Leads; Row Spacing 7.62 mm; Pitch 2.54 mm; Code_JEDEC: MS-001-AD; ComponentLink1Description: Manufacturer Link; ComponentLink1URL: http://www.national.com/; ComponentLink2Description: Datasheet; ComponentLink2URL: http://www.national.com/ds.cgi/DC/ADC0841.pdf; ComponentLink3Description: Discontinuation Notice; ComponentLink3URL: http://www.national.com/obs/obsolescence.txt; ComponentLink4Description: URL Link1; ComponentLink4URL: http://www.national.com/pf/DC/ADC0841.html
footprint N20A (DIP; 20 Leads; Row Spacing 7.62 mm; Pitch 2.54 mm)
3D model N20A (DIP; 20 Leads; Row Spacing 7.62 mm; Pitch 2.54 mm)
pins: 1 ~{CS} (in), 2 ~{RD} (in), 3 ~{WR} (in), 4 NC, 5 ~{INTR} (out), 6 VIN+ (in), 7 VIN - (in), 8 AGND (power), 9 VREF (in), 10 DGND (power), 11 DB7 (hiz), 12 DB6 (hiz), 13 DB5 (hiz), 14 DB4 (hiz), 15 DB3 (hiz), 16 DB2 (hiz), 17 DB1 (hiz), 18 DB0 (hiz), 19 NC, 20 VCC (power)

## ADC0841CCV
designator U?
8-Bit µP-Compatible A/D Converter; ComponentAvailability: Obsolete; Published: 15-Apr-2002; LatestRevisionDate: 13-Apr-2006; LatestRevisionNote: IPC-7351 Footprint Added.; DatasheetVersion: May-1998; PackageVersion: 1996; PackageReference: V20A; Publisher: Altium Limited; PackageDescription: 20-Pin Leaded Chip Carrier 1.27 mm Pitch; Code_IPC: PLCC-20; ComponentLink1Description: Manufacturer Link; ComponentLink1URL: http://www.national.com/; ComponentLink2Description: Datasheet; ComponentLink2URL: http://www.national.com/ds.cgi/DC/ADC0841.pdf; ComponentLink3Description: Discontinuation Notice; ComponentLink3URL: http://www.national.com/obs/obsolescence.txt; ComponentLink4Description: URL Link1; ComponentLink4URL: http://www.national.com/pf/DC/ADC0841.html
footprint V20A_N (Leaded Chip Carrier, 20-Leads, Body 9x9mm, Pitch 1.27mm, IPC Medium Density)
footprint V20A_L (Leaded Chip Carrier, 20-Leads, Body 9x9mm, Pitch 1.27mm, IPC High Density)
footprint V20A_M (Leaded Chip Carrier, 20-Leads, Body 9x9mm, Pitch 1.27mm, IPC Low Density)
3D model ADC0841-V20A (20-Pin Leaded Chip Carrier 1.27 mm Pitch)
pins: 1 ~{CS} (in), 2 ~{RD} (in), 3 ~{WR} (in), 4 NC, 5 ~{INTR} (out), 6 VIN+ (in), 7 VIN - (in), 8 AGND (power), 9 VREF (in), 10 DGND (power), 11 DB7 (hiz), 12 DB6 (hiz), 13 DB5 (hiz), 14 DB4 (hiz), 15 DB3 (hiz), 16 DB2 (hiz), 17 DB1 (hiz), 18 DB0 (hiz), 19 NC, 20 VCC (power)

## ADC0844BCJ
designator U?
8-Bit µP-Compatible A/D Converter with Multiplexer Option; ComponentAvailability: Obsolete; Published: 15-Apr-2002; LatestRevisionDate: 06-Jun-2005; LatestRevisionNote: Stylized 3D Model Added.; DatasheetVersion: Jun-1999; PackageVersion: 2000; PackageReference: J20A; Publisher: Altium Limited; PackageDescription: DIP; 20 Leads; Row Spacing 7.62 mm; Pitch 2.54 mm; Code_JEDEC: MS-015-AE; ComponentLink1Description: Manufacturer Link; ComponentLink1URL: http://www.national.com/; ComponentLink2Description: Datasheet; ComponentLink2URL: http://www.national.com/ds.cgi/DC/ADC0844.pdf; ComponentLink3Description: Discontinuation Notice; ComponentLink3URL: http://www.national.com/obs/obsolescence.txt; ComponentLink4Description: URL Link1; ComponentLink4URL: http://www.national.com/pf/DC/ADC0844.html
footprint J20A (DIP; 20 Leads; Row Spacing 7.62 mm; Pitch 2.54 mm)
3D model J20A (DIP; 20 Leads; Row Spacing 7.62 mm; Pitch 2.54 mm)
pins: 1 ~{RD} (in), 2 ~{CS} (in), 3 CH1 (in), 4 CH2 (in), 5 CH3 (in), 6 CH4 (in), 7 AGND (power), 8 VREF (in), 9 DB7 (hiz), 10 DGND (power), 11 DB6 (hiz), 12 DB5 (hiz), 13 DB4 (hiz), 14 DB3/MA3 (hiz), 15 DB2/MA2 (hiz), 16 DB1/MA1 (hiz), 17 DB0/MA0 (hiz), 18 ~{INTR} (out), 19 ~{WR} (in), 20 VDD (power)

## ADC0844BCN
designator U?
8-Bit µP-Compatible A/D Converter with Multiplexer Option; ComponentAvailability: Obsolete; Published: 15-Apr-2002; LatestRevisionDate: 06-Jun-2005; LatestRevisionNote: Stylized 3D Model Added.; DatasheetVersion: Mar-1998; PackageVersion: 2000; PackageReference: N20A; Publisher: Altium Limited; PackageDescription: DIP; 20 Leads; Row Spacing 7.62 mm; Pitch 2.54 mm; Code_JEDEC: MS-001-AD; ComponentLink1Description: Manufacturer Link; ComponentLink1URL: http://www.national.com/; ComponentLink2Description: Datasheet; ComponentLink2URL: http://www.national.com/ds.cgi/DC/ADC0844.pdf; ComponentLink3Description: Discontinuation Notice; ComponentLink3URL: http://www.national.com/obs/obsolescence.txt; ComponentLink4Description: URL Link1; ComponentLink4URL: http://www.national.com/pf/DC/ADC0844.html
footprint N20A (DIP; 20 Leads; Row Spacing 7.62 mm; Pitch 2.54 mm)
3D model N20A (DIP; 20 Leads; Row Spacing 7.62 mm; Pitch 2.54 mm)
pins: 1 ~{RD} (in), 2 ~{CS} (in), 3 CH1 (in), 4 CH2 (in), 5 CH3 (in), 6 CH4 (in), 7 AGND (power), 8 VREF (in), 9 DB7 (hiz), 10 DGND (power), 11 DB6 (hiz), 12 DB5 (hiz), 13 DB4 (hiz), 14 DB3/MA3 (hiz), 15 DB2/MA2 (hiz), 16 DB1/MA1 (hiz), 17 DB0/MA0 (hiz), 18 ~{INTR} (out), 19 ~{WR} (in), 20 VDD (power)

## ADC0844CCJ
designator U?
8-Bit µP-Compatible A/D Converter with Multiplexer Option; ComponentAvailability: Obsolete; Published: 15-Apr-2002; LatestRevisionDate: 06-Jun-2005; LatestRevisionNote: Stylized 3D Model Added.; DatasheetVersion: Jun-1999; PackageVersion: 2000; PackageReference: J20A; Publisher: Altium Limited; PackageDescription: DIP; 20 Leads; Row Spacing 7.62 mm; Pitch 2.54 mm; Code_JEDEC: MS-015-AE; ComponentLink1Description: Manufacturer Link; ComponentLink1URL: http://www.national.com/; ComponentLink2Description: Datasheet; ComponentLink2URL: http://www.national.com/ds.cgi/DC/ADC0844.pdf; ComponentLink3Description: Discontinuation Notice; ComponentLink3URL: http://www.national.com/obs/obsolescence.txt; ComponentLink4Description: URL Link1; ComponentLink4URL: http://www.national.com/pf/DC/ADC0844.html
footprint J20A (DIP; 20 Leads; Row Spacing 7.62 mm; Pitch 2.54 mm)
3D model J20A (DIP; 20 Leads; Row Spacing 7.62 mm; Pitch 2.54 mm)
pins: 1 ~{RD} (in), 2 ~{CS} (in), 3 CH1 (in), 4 CH2 (in), 5 CH3 (in), 6 CH4 (in), 7 AGND (power), 8 VREF (in), 9 DB7 (hiz), 10 DGND (power), 11 DB6 (hiz), 12 DB5 (hiz), 13 DB4 (hiz), 14 DB3/MA3 (hiz), 15 DB2/MA2 (hiz), 16 DB1/MA1 (hiz), 17 DB0/MA0 (hiz), 18 ~{INTR} (out), 19 ~{WR} (in), 20 VDD (power)

## ADC0844CCN
designator U?
8-Bit µP-Compatible A/D Converter with Multiplexer Option; Published: 15-Apr-2002; LatestRevisionDate: 06-Jun-2005; LatestRevisionNote: Stylized 3D Model Added.; DatasheetVersion: Jun-1999; PackageVersion: 2000; PackageReference: N20A; Publisher: Altium Limited; PackageDescription: DIP; 20 Leads; Row Spacing 7.62 mm; Pitch 2.54 mm; Code_JEDEC: MS-001-AD; ComponentLink1Description: Manufacturer Link; ComponentLink1URL: http://www.national.com/; ComponentLink2Description: Datasheet; ComponentLink2URL: http://www.national.com/ds.cgi/DC/ADC0844.pdf; ComponentLink3Description: URL Link1; ComponentLink3URL: http://www.national.com/pf/DC/ADC0844.html
footprint N20A (DIP; 20 Leads; Row Spacing 7.62 mm; Pitch 2.54 mm)
3D model N20A (DIP; 20 Leads; Row Spacing 7.62 mm; Pitch 2.54 mm)
pins: 1 ~{RD} (in), 2 ~{CS} (in), 3 CH1 (in), 4 CH2 (in), 5 CH3 (in), 6 CH4 (in), 7 AGND (power), 8 VREF (in), 9 DB7 (hiz), 10 DGND (power), 11 DB6 (hiz), 12 DB5 (hiz), 13 DB4 (hiz), 14 DB3/MA3 (hiz), 15 DB2/MA2 (hiz), 16 DB1/MA1 (hiz), 17 DB0/MA0 (hiz), 18 ~{INTR} (out), 19 ~{WR} (in), 20 VDD (power)

## ADC0848BCJ
designator U?
8-Bit µP-Compatible A/D Converter with Multiplexer Option; ComponentAvailability: Obsolete; Published: 15-Apr-2002; LatestRevisionDate: 06-Jun-2005; LatestRevisionNote: Stylized 3D Model Added.; DatasheetVersion: Mar-1998; PackageVersion: 2000; PackageReference: J24F; Publisher: Altium Limited; PackageDescription: DIP; 24 Leads; Row Spacing 7.62 mm; Pitch 2.54 mm; Code_JEDEC: MS-001-AF; ComponentLink1Description: Manufacturer Link; ComponentLink1URL: http://www.national.com/; ComponentLink2Description: Datasheet; ComponentLink2URL: http://www.national.com/ds.cgi/DC/ADC0844.pdf; ComponentLink3Description: Discontinuation Notice; ComponentLink3URL: http://www.national.com/obs/obsolescence.txt; ComponentLink4Description: URL Link1; ComponentLink4URL: http://www.national.com/pf/DC/ADC0848.html
footprint J24F (DIP; 24 Leads; Row Spacing 7.62 mm; Pitch 2.54 mm)
3D model N24C (DIP; 24 Leads; Row Spacing 7.62 mm; Pitch 2.54 mm)
pins: 1 ~{RD} (in), 2 CH1 (in), 3 CH2 (in), 4 CH3 (in), 5 CH4 (in), 6 CH5 (in), 7 CH6 (in), 8 CH7 (in), 9 CH8 (in), 10 AGND (power), 11 VREF (in), 12 DGND (power), 13 DB7 (hiz), 14 DB6 (hiz), 15 DB5 (hiz), 16 DB4/MA4 (hiz), 17 DB3/MA3 (hiz), 18 DB2/MA2 (hiz), 19 DB1/MA1 (hiz), 20 DB0/MA0 (hiz), 21 ~{INTR} (out), 22 ~{WR} (in), 23 ~{CS} (in), 24 VCC (power)

## ADC0848BCN
designator U?
8-Bit µP-Compatible A/D Converter with Multiplexer Option; Published: 15-Apr-2002; LatestRevisionDate: 06-Jun-2005; LatestRevisionNote: Stylized 3D Model Added.; DatasheetVersion: Jun-1999; PackageVersion: 2000; PackageReference: N24C; Publisher: Altium Limited; PackageDescription: DIP; 24 Leads; Row Spacing 7.62 mm; Pitch 2.54 mm; Code_JEDEC: MS-001-AF; ComponentLink1Description: Manufacturer Link; ComponentLink1URL: http://www.national.com/; ComponentLink2Description: Datasheet; ComponentLink2URL: http://www.national.com/ds.cgi/DC/ADC0844.pdf; ComponentLink3Description: URL Link1; ComponentLink3URL: http://www.national.com/pf/DC/ADC0848.html
footprint N24C (DIP; 24 Leads; Row Spacing 7.62 mm; Pitch 2.54 mm)
3D model N24C (DIP; 24 Leads; Row Spacing 7.62 mm; Pitch 2.54 mm)
pins: 1 ~{RD} (in), 2 CH1 (in), 3 CH2 (in), 4 CH3 (in), 5 CH4 (in), 6 CH5 (in), 7 CH6 (in), 8 CH7 (in), 9 CH8 (in), 10 AGND (power), 11 VREF (in), 12 DGND (power), 13 DB7 (hiz), 14 DB6 (hiz), 15 DB5 (hiz), 16 DB4/MA4 (hiz), 17 DB3/MA3 (hiz), 18 DB2/MA2 (hiz), 19 DB1/MA1 (hiz), 20 DB0/MA0 (hiz), 21 ~{INTR} (out), 22 ~{WR} (in), 23 ~{CS} (in), 24 VCC (power)

## ADC0848BCV
designator U?
8-Bit µP-Compatible A/D Converter with Multiplexer Option; Published: 15-Apr-2002; LatestRevisionDate: 13-Apr-2006; LatestRevisionNote: IPC-7351 Footprint Added.; DatasheetVersion: Jun-1999; PackageVersion: 2000; PackageReference: V28A; Publisher: Altium Limited; PackageDescription: 28-Pin Leaded Chip Carrier 1.27 mm Pitch; Code_IPC: PLCC-28; ComponentLink1Description: Manufacturer Link; ComponentLink1URL: http://www.national.com/; ComponentLink2Description: Datasheet; ComponentLink2URL: http://www.national.com/ds.cgi/DC/ADC0844.pdf; ComponentLink3Description: URL Link1; ComponentLink3URL: http://www.national.com/pf/DC/ADC0848.html
footprint V28A_N (Leaded Chip Carrier, 28-Leads, Body 11.5x11.5mm, Pitch 1.27mm, IPC Medium Density)
footprint V28A_L (Leaded Chip Carrier, 28-Leads, Body 11.5x11.5mm, Pitch 1.27mm, IPC High Density)
footprint V28A_M (Leaded Chip Carrier, 28-Leads, Body 11.5x11.5mm, Pitch 1.27mm, IPC Low Density)
3D model ADC0848-V28A (28-Pin Leaded Chip Carrier 1.27 mm Pitch)
pins: 1 NC, 2 VCC (power), 3 ~{RD} (in), 4 CH1 (in), 5 CH2 (in), 6 CH3 (in), 7 CH4 (in), 8 NC, 9 CH5 (in), 10 CH6 (in), 11 CH7 (in), 12 CH8 (in), 13 AGND (power), 14 VREF (in), 15 NC, 16 DGND (power), 17 DB7 (hiz), 18 DB6 (hiz), 19 DB5 (hiz), 20 DB4/MA4 (hiz), 21 DB3/MA3 (hiz), 22 NC, 23 DB2/MA2 (hiz), 24 DB1/MA1 (hiz), 25 DB0/MA0 (hiz), 26 ~{INTR} (out), 27 ~{WR} (in), 28 ~{CS} (in)

## ADC0848CCJ
designator U?
8-Bit µP-Compatible A/D Converter with Multiplexer Option; ComponentAvailability: Obsolete; Published: 15-Apr-2002; LatestRevisionDate: 06-Jun-2005; LatestRevisionNote: Stylized 3D Model Added.; DatasheetVersion: Mar-1998; PackageVersion: 2000; PackageReference: J24F; Publisher: Altium Limited; PackageDescription: DIP; 24 Leads; Row Spacing 7.62 mm; Pitch 2.54 mm; Code_JEDEC: MS-001-AF; ComponentLink1Description: Manufacturer Link; ComponentLink1URL: http://www.national.com/; ComponentLink2Description: Datasheet; ComponentLink2URL: http://www.national.com/ds.cgi/DC/ADC0844.pdf; ComponentLink3Description: Discontinuation Notice; ComponentLink3URL: http://www.national.com/obs/obsolescence.txt; ComponentLink4Description: URL Link1; ComponentLink4URL: http://www.national.com/pf/DC/ADC0848.html
footprint J24F (DIP; 24 Leads; Row Spacing 7.62 mm; Pitch 2.54 mm)
3D model N24C (DIP; 24 Leads; Row Spacing 7.62 mm; Pitch 2.54 mm)
pins: 1 ~{RD} (in), 2 CH1 (in), 3 CH2 (in), 4 CH3 (in), 5 CH4 (in), 6 CH5 (in), 7 CH6 (in), 8 CH7 (in), 9 CH8 (in), 10 AGND (power), 11 VREF (in), 12 DGND (power), 13 DB7 (hiz), 14 DB6 (hiz), 15 DB5 (hiz), 16 DB4/MA4 (hiz), 17 DB3/MA3 (hiz), 18 DB2/MA2 (hiz), 19 DB1/MA1 (hiz), 20 DB0/MA0 (hiz), 21 ~{INTR} (out), 22 ~{WR} (in), 23 ~{CS} (in), 24 VCC (power)

## ADC0848CCN
designator U?
8-Bit µP-Compatible A/D Converter with Multiplexer Option; Published: 15-Apr-2002; LatestRevisionDate: 06-Jun-2005; LatestRevisionNote: Stylized 3D Model Added.; DatasheetVersion: Jun-1999; PackageVersion: 2000; PackageReference: N24C; Publisher: Altium Limited; PackageDescription: DIP; 24 Leads; Row Spacing 7.62 mm; Pitch 2.54 mm; Code_JEDEC: MS-001-AF; ComponentLink1Description: Manufacturer Link; ComponentLink1URL: http://www.national.com/; ComponentLink2Description: Datasheet; ComponentLink2URL: http://www.national.com/ds.cgi/DC/ADC0844.pdf; ComponentLink3Description: URL Link1; ComponentLink3URL: http://www.national.com/pf/DC/ADC0848.html
footprint N24C (DIP; 24 Leads; Row Spacing 7.62 mm; Pitch 2.54 mm)
3D model N24C (DIP; 24 Leads; Row Spacing 7.62 mm; Pitch 2.54 mm)
pins: 1 ~{RD} (in), 2 CH1 (in), 3 CH2 (in), 4 CH3 (in), 5 CH4 (in), 6 CH5 (in), 7 CH6 (in), 8 CH7 (in), 9 CH8 (in), 10 AGND (power), 11 VREF (in), 12 DGND (power), 13 DB7 (hiz), 14 DB6 (hiz), 15 DB5 (hiz), 16 DB4/MA4 (hiz), 17 DB3/MA3 (hiz), 18 DB2/MA2 (hiz), 19 DB1/MA1 (hiz), 20 DB0/MA0 (hiz), 21 ~{INTR} (out), 22 ~{WR} (in), 23 ~{CS} (in), 24 VCC (power)

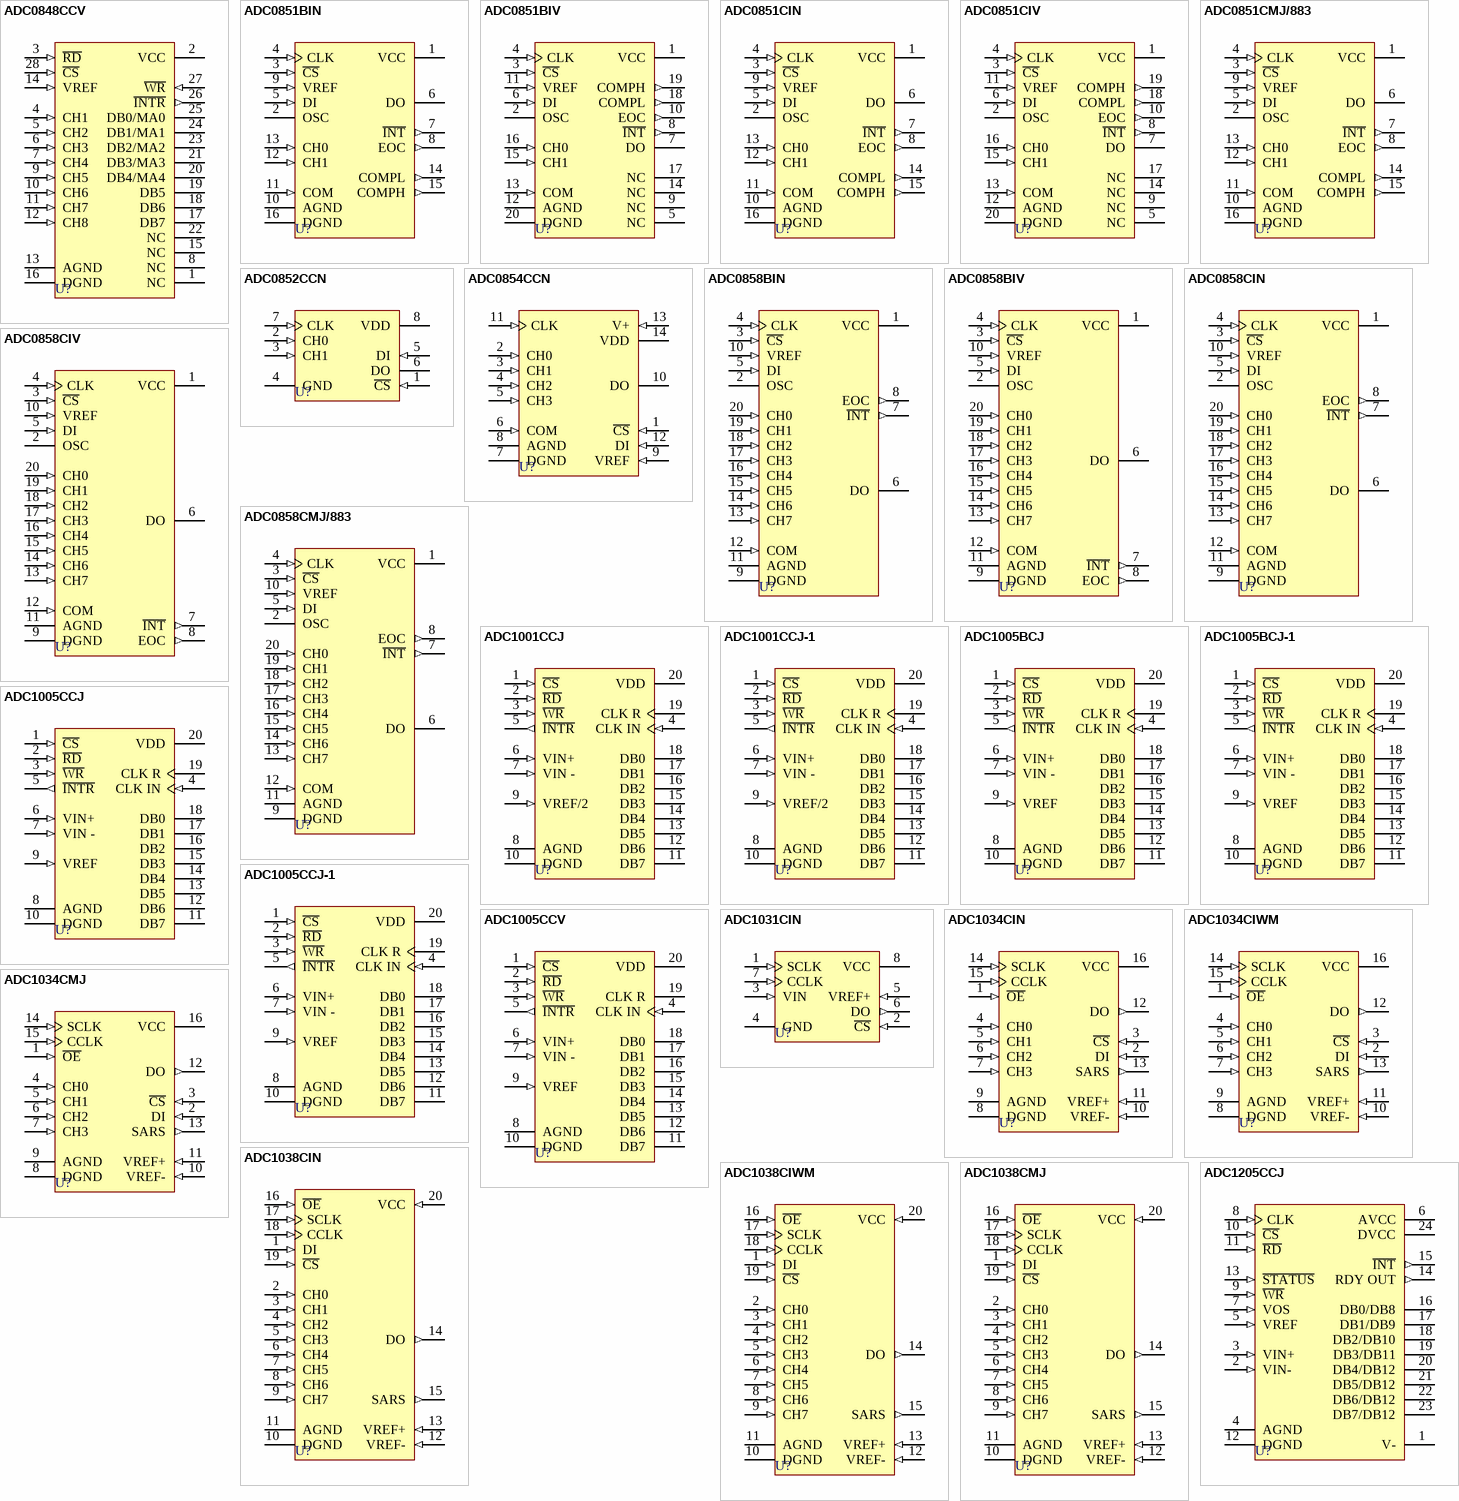
[diagram p3: symbols ADC0848CCV to ADC1205CCJ]